# Altium footprint library TCU1.PcbLib: 22 footprints (part 1 of 2)
Each footprint in its own frame and in the unit in brackets; x right, y up, seen from the top. Pads: shape width x height; smd on the part's side, far side on the other; paste and mask are expansions set on the pad; w line width, h text height; cw(c..) or ccw(c..) is an arc to the next point about the centre after c.
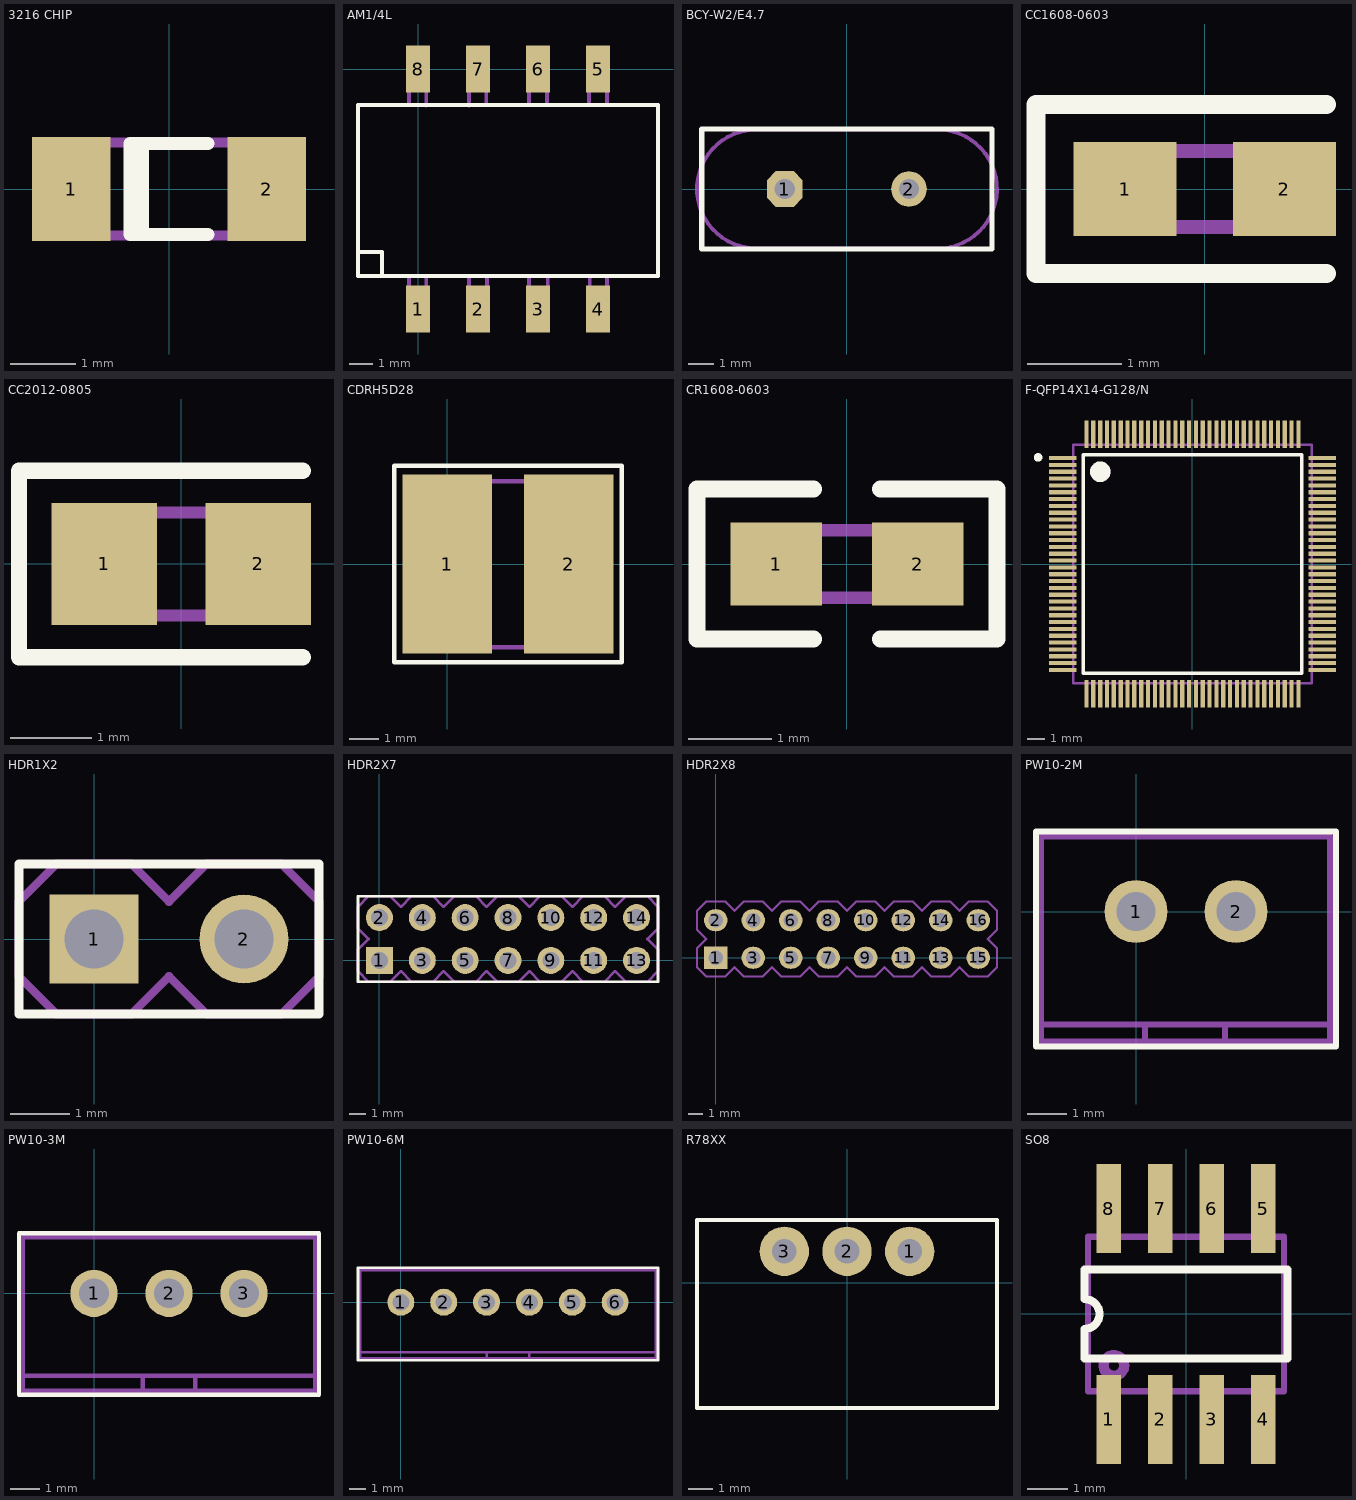
[diagram p0: the footprints below, top view; thin cyan lines are the x and y axes]

## 3216 CHIP [mm]
pads (2):
  rect 1.2x1.6 smd: 1(-1.5,0) 2(1.5,0)
Top Overlay:
  lines w0.2: -0.41,-0.7 -0.41,0.7 ; 0.6,-0.7 -0.6,-0.7 -0.6,0.7 0.6,0.7
Mechanical 3:
  lines w0.15: -1.27,0.686 -1.27,-0.686 -1.245,-0.711 ; 1.27,-0.711 1.27,0.711 ; -1.651,-0.711 -1.651,0.711 1.651,0.711 1.651,-0.711 -1.651,-0.711
3D body: height 0.78, standoff 0, extent -1,-0.635 1,0.615

## AM1/4L [mm]
pads (8):
  rect 1x2 smd: 1(0,-10.16) 2(2.54,-10.16) 3(5.08,-10.16) 4(7.62,-10.16) 5(7.62,0) 6(5.08,0) 7(2.54,0) 8(0,0)
Top Overlay:
  lines w0.15: -2.54,-7.747 -1.524,-7.747 -1.524,-8.738 ; -2.54,-8.763 10.16,-8.763 10.16,-1.524 -2.54,-1.524 -2.54,-8.763
Mechanical 3:
  lines w0.15: -0.381,-8.763 -0.381,-10.287 0.356,-10.287 0.356,-8.763 ; -0.381,-1.524 -0.381,0.152 0.356,0.152 0.356,-1.549 ; 2.159,-8.763 2.159,-10.287 2.921,-10.287 2.921,-8.814 2.896,-8.788 ; 2.159,-1.549 2.159,0.127 2.896,0.127 2.896,-1.524 ; 4.699,-8.763 4.699,-10.312 5.486,-10.312 5.486,-8.763 ; 4.699,-1.524 4.699,0.127 5.461,0.127 5.461,-1.499 ; 7.239,-1.499 7.239,0.127 8.001,0.127 8.001,-1.524 ; 7.264,-8.814 7.264,-10.312 8.001,-10.312 8.001,-8.788
3D body: height 1, standoff 0, extent -0.381,-10.439 0.356,-8.636
3D body: height 1, standoff 0, extent 2.184,-10.439 2.921,-8.636
3D body: height 1, standoff 0, extent 4.724,-10.439 5.461,-8.636
3D body: height 1, standoff 0, extent 7.264,-10.439 8.001,-8.636
3D body: height 1, standoff 0, extent 7.239,-1.651 7.976,0.152
3D body: height 1, standoff 0, extent 4.699,-1.651 5.436,0.152
3D body: height 1, standoff 0, extent 2.159,-1.651 2.896,0.152
3D body: height 1, standoff 0, extent -0.381,-1.651 0.356,0.152
3D body: height 6, standoff 0, extent -2.54,-8.763 10.16,-1.524

## BCY-W2/E4.7 [mm]
pads (2):
  oct 1.4x1.4 hole 0.8: 1(-2.44,0)
  round 1.4 hole 0.8: 2(2.44,0)
Top Overlay:
  lines w0.2: -5.7,-2.35 -5.7,2.35 5.7,2.35 5.7,-2.35 -5.7,-2.35
Mechanical 3:
  lines w0.15: -3.683,2.337 3.658,2.337
  lines w0.152: -3.708,-2.337 3.785,-2.337 ; -3.684,2.328 ccw(c-3.556,0) -3.683,-2.328 ; 3.659,2.34 cw(c3.556,0) 3.809,-2.328
3D body: height 1.27, standoff -4.33, extent -5.588,-2.336 5.584,2.336
3D body: height 0.3, standoff 0, extent -5.69,-2.337 5.715,2.337

## CC1608-0603 [mm]
pads (2):
  rect 1.1x1 smd: 1(-0.85,0) 2(0.85,0)
Top Overlay:
  lines w0.2: 1.3,-0.9 -1.8,-0.9 -1.8,0.9 1.3,0.9
Mechanical 3:
  lines w0.15: -0.686,-0.406 -0.686,0.406 ; 0.711,-0.381 0.711,0.406 ; -0.965,-0.406 1.016,-0.406 1.016,0.406 -0.965,0.406 -0.965,-0.406
3D body: height 0.86, standoff -0.04, extent -1.3,-0.5 1.3,0.5

## CC2012-0805 [mm]
pads (2):
  rect 1.3x1.5 smd: 1(-0.95,0) 2(0.95,0)
Top Overlay:
  lines w0.2: 1.5,-1.15 -2,-1.15 -2,1.15 1.5,1.15
Mechanical 3:
  lines w0.15: -1.143,0.635 -1.143,-0.635 1.143,-0.635 1.143,0.635 -1.118,0.635 ; -0.787,-0.635 -0.787,0.635 ; 0.813,-0.61 0.813,0.635
3D body: height 0.93, standoff -0.01, extent -1.5,-0.7 1.5,0.7

## CDRH5D28 [mm]
pads (2):
  rect 3x6 smd: 1(0,0) 2(4.064,0)
Top Overlay:
  lines w0.15: -1.778,-3.302 -1.778,3.302 5.842,3.302 5.842,-3.302 -1.778,-3.302
Mechanical 3:
  lines w0.15: -1.295,2.769 -1.295,-2.794 5.334,-2.794 5.334,2.769 -1.27,2.769 ; -1.27,1.905 -1.245,1.905 -0.381,2.769 ; 4.42,-2.769 5.283,-1.905 ; 5.309,-1.905 5.334,-1.905
3D body: height 4, standoff 0, extent -1.295,-2.794 5.334,2.743

## CR1608-0603 [mm]
pads (2):
  rect 1.1x1 smd: 1(-0.85,0) 2(0.85,0)
Top Overlay:
  lines w0.2: -0.4,-0.9 -1.8,-0.9 -1.8,0.9 -0.4,0.9 ; 0.4,-0.9 1.8,-0.9 1.8,0.9 0.4,0.9
Mechanical 3:
  lines w0.15: -0.686,-0.406 -0.686,0.406 ; 0.66,-0.406 0.66,0.406 ; -1.016,-0.406 1.016,-0.406 1.016,0.406 -1.016,0.406 -1.016,-0.406
3D body: height 0.37, standoff 0, extent -0.8,-0.401 0.8,0.401

## F-QFP14X14-G128/N [mm]
pads (128):
  rect 1.6x0.25 smd: 1(-7.6,6.2) 2(-7.6,5.8) 3(-7.6,5.4) 4(-7.6,5) 5(-7.6,4.6) 6(-7.6,4.2) 7(-7.6,3.8) 8(-7.6,3.4) 9(-7.6,3) 10(-7.6,2.6) 11(-7.6,2.2) 12(-7.6,1.8) 13(-7.6,1.4) 14(-7.6,1) 15(-7.6,0.6) 16(-7.6,0.2) 17(-7.6,-0.2) 18(-7.6,-0.6) 19(-7.6,-1) 20(-7.6,-1.4) 21(-7.6,-1.8) 22(-7.6,-2.2) 23(-7.6,-2.6) 24(-7.6,-3) 25(-7.6,-3.4) 26(-7.6,-3.8) 27(-7.6,-4.2) 28(-7.6,-4.6) 29(-7.6,-5) 30(-7.6,-5.4) 31(-7.6,-5.8) 32(-7.6,-6.2) 65(7.6,-6.2) 66(7.6,-5.8) 67(7.6,-5.4) 68(7.6,-5) 69(7.6,-4.6) 70(7.6,-4.2) 71(7.6,-3.8) 72(7.6,-3.4) 73(7.6,-3) 74(7.6,-2.6) 75(7.6,-2.2) 76(7.6,-1.8) 77(7.6,-1.4) 78(7.6,-1) 79(7.6,-0.6) 80(7.6,-0.2) 81(7.6,0.2) 82(7.6,0.6) 83(7.6,1) 84(7.6,1.4) 85(7.6,1.8) 86(7.6,2.2) 87(7.6,2.6) 88(7.6,3) 89(7.6,3.4) 90(7.6,3.8) 91(7.6,4.2) 92(7.6,4.6) 93(7.6,5) 94(7.6,5.4) 95(7.6,5.8) 96(7.6,6.2)
  rect 0.25x1.6 smd: 33(-6.2,-7.6) 34(-5.8,-7.6) 35(-5.4,-7.6) 36(-5,-7.6) 37(-4.6,-7.6) 38(-4.2,-7.6) 39(-3.8,-7.6) 40(-3.4,-7.6) 41(-3,-7.6) 42(-2.6,-7.6) 43(-2.2,-7.6) 44(-1.8,-7.6) 45(-1.4,-7.6) 46(-1,-7.6) 47(-0.6,-7.6) 48(-0.2,-7.6) 49(0.2,-7.6) 50(0.6,-7.6) 51(1,-7.6) 52(1.4,-7.6) 53(1.8,-7.6) 54(2.2,-7.6) 55(2.6,-7.6) 56(3,-7.6) 57(3.4,-7.6) 58(3.8,-7.6) 59(4.2,-7.6) 60(4.6,-7.6) 61(5,-7.6) 62(5.4,-7.6) 63(5.8,-7.6) 64(6.2,-7.6) 97(6.2,7.6) 98(5.8,7.6) 99(5.4,7.6) 100(5,7.6) 101(4.6,7.6) 102(4.2,7.6) 103(3.8,7.6) 104(3.4,7.6) 105(3,7.6) 106(2.6,7.6) 107(2.2,7.6) 108(1.8,7.6) 109(1.4,7.6) 110(1,7.6) 111(0.6,7.6) 112(0.2,7.6) 113(-0.2,7.6) 114(-0.6,7.6) 115(-1,7.6) 116(-1.4,7.6) 117(-1.8,7.6) 118(-2.2,7.6) 119(-2.6,7.6) 120(-3,7.6) 121(-3.4,7.6) 122(-3.8,7.6) 123(-4.2,7.6) 124(-4.6,7.6) 125(-5,7.6) 126(-5.4,7.6) 127(-5.8,7.6) 128(-6.2,7.6)
Top Overlay:
  circle w0.25: c-9.033,6.239 r0.125
  circle w0.6: c-5.4,5.4 r0.3
  lines w0.2: -6.4,-6.4 6.4,-6.4 6.4,6.4 -6.4,6.4 -6.4,-6.4
Mechanical 3:
  drawing of 155 lines, arcs and shapes, not listed
3D body: height 1.35, standoff 0, extent -8.001,-8.011 8.021,8.011

## HDR1X2 [mm]
pads (2):
  rect 1.5x1.5 hole 1: 1(0,0)
  round 1.5 hole 1: 2(2.54,0)
Top Overlay:
  lines w0.15: -1.27,-1.27 -1.27,1.27 3.81,1.27 3.81,-1.27 -1.27,-1.27
Mechanical 3:
  circle w0.254: c0,0 r0.381
  circle w0.254: c2.54,0 r0.381
  lines w0.15: -1.27,-0.635 -0.635,-1.27 0.635,-1.27 1.27,-0.635 1.905,-1.27 3.175,-1.27 3.81,-0.635 3.81,0.635 3.175,1.27 1.905,1.27 1.27,0.635 0.635,1.27 -0.635,1.27 -1.27,0.635 -1.27,-0.635
3D body: height 10, standoff -3, extent -0.254,-0.254 0.254,0.254
3D body: height 10, standoff -3, extent 2.286,-0.254 2.794,0.254
3D body: height 2.5, standoff 0.1, extent -1.27,-1.27 3.81,1.27

## HDR2X7 [mm]
pads (14):
  rect 1.6x1.6 hole 1: 1(0,0)
  round 1.6 hole 1: 2(0,2.54) 3(2.54,0) 4(2.54,2.54) 5(5.08,0) 6(5.08,2.54) 7(7.62,0) 8(7.62,2.54) 9(10.16,0) 10(10.16,2.54) 11(12.7,0) 12(12.7,2.54) 13(15.24,0) 14(15.24,2.54)
Top Overlay:
  lines w0.15: -1.27,-1.27 -1.27,3.81 16.51,3.81 16.51,-1.27 -1.27,-1.27
Mechanical 3:
  circle w0.254: c0,0 r0.381
  circle w0.254: c2.54,0 r0.381
  circle w0.254: c5.08,0 r0.381
  circle w0.254: c7.62,0 r0.381
  circle w0.254: c10.16,0 r0.381
  circle w0.254: c12.7,0 r0.381
  circle w0.254: c15.24,0 r0.381
  circle w0.254: c15.24,2.54 r0.381
  circle w0.254: c12.7,2.54 r0.381
  circle w0.254: c10.16,2.54 r0.381
  circle w0.254: c7.62,2.54 r0.381
  circle w0.254: c5.08,2.54 r0.381
  circle w0.254: c2.54,2.54 r0.381
  circle w0.254: c0,2.54 r0.381
  lines w0.15: -1.27,-0.635 -1.27,0.635 -0.635,1.27 -1.27,1.905 -1.27,3.175 -0.635,3.81 0.635,3.81 1.27,3.175 1.905,3.81 3.175,3.81 3.81,3.175 4.445,3.81 5.715,3.81 6.35,3.175 6.985,3.81 8.255,3.81 8.89,3.175 9.525,3.81 10.795,3.81 11.43,3.175 12.065,3.81 13.335,3.81 13.97,3.175 14.605,3.81 15.875,3.81 16.51,3.175 16.51,1.905 15.875,1.27 16.51,0.635 16.51,-0.635 15.875,-1.27 14.605,-1.27 13.97,-0.635 13.335,-1.27 12.065,-1.27 11.43,-0.635 10.795,-1.27 9.525,-1.27 8.89,-0.635 8.255,-1.27 6.985,-1.27 6.35,-0.635 5.715,-1.27 4.445,-1.27 3.81,-0.635 3.175,-1.27 1.905,-1.27 1.27,-0.635 0.635,-1.27 -0.635,-1.27 -1.27,-0.635
3D body: height 2.5, standoff 0.1, extent -1.27,-1.27 16.51,3.81
3D body: height 10, standoff -3, extent -0.254,-0.254 0.254,0.254
3D body: height 10, standoff -3, extent 2.286,2.286 2.794,2.794
3D body: height 10, standoff -3, extent 4.826,2.286 5.334,2.794
3D body: height 10, standoff -3, extent 2.286,-0.254 2.794,0.254
3D body: height 10, standoff -3, extent 4.826,-0.254 5.334,0.254
3D body: height 10, standoff -3, extent 7.366,2.286 7.874,2.794
3D body: height 10, standoff -3, extent 7.366,-0.254 7.874,0.254
3D body: height 10, standoff -3, extent 9.906,2.286 10.414,2.794
3D body: height 10, standoff -3, extent 9.906,-0.254 10.414,0.254
3D body: height 10, standoff -3, extent 12.446,2.286 12.954,2.794
3D body: height 10, standoff -3, extent 12.446,-0.254 12.954,0.254
3D body: height 10, standoff -3, extent 14.986,2.286 15.494,2.794
3D body: height 10, standoff -3, extent 14.986,-0.254 15.494,0.254
3D body: height 10, standoff -3, extent -0.254,2.286 0.254,2.794

## HDR2X8 [mm]
pads (16):
  rect 1.6x1.5 / inner rect 1.6x1.5 / far side rect 1.6x1.6 hole 1: 1(0,0)
  oval 1.6x1.5 / inner oval 1.6x1.5 / far side round 1.6 hole 1: 2(0,2.54) 3(2.54,0) 4(2.54,2.54) 5(5.08,0) 6(5.08,2.54) 7(7.62,0) 8(7.62,2.54) 9(10.16,0) 10(10.16,2.54) 11(12.7,0) 12(12.7,2.54) 13(15.24,0) 14(15.24,2.54) 15(17.78,0) 16(17.78,2.54)
Bottom Overlay:
  lines w0.15: -1.27,-1.27 -1.27,3.81 19.05,3.81 19.05,-1.27 -1.27,-1.27
Mechanical 3:
  circle w0.254: c17.78,0 r0.381
  circle w0.254: c17.78,2.54 r0.381
  circle w0.254: c2.54,0 r0.381
  circle w0.254: c0,0 r0.381
  circle w0.254: c2.54,0 r0.381
  circle w0.254: c5.08,0 r0.381
  circle w0.254: c7.62,0 r0.381
  circle w0.254: c10.16,0 r0.381
  circle w0.254: c12.7,0 r0.381
  circle w0.254: c15.24,0 r0.381
  circle w0.254: c15.24,2.54 r0.381
  circle w0.254: c12.7,2.54 r0.381
  circle w0.254: c10.16,2.54 r0.381
  circle w0.254: c7.62,2.54 r0.381
  circle w0.254: c5.08,2.54 r0.381
  circle w0.254: c2.54,2.54 r0.381
  circle w0.254: c0,2.54 r0.381
  lines w0.15: -1.27,-0.635 -1.27,0.635 -0.635,1.27 -1.27,1.905 -1.27,3.175 -0.635,3.81 0.635,3.81 1.27,3.175 1.905,3.81 3.175,3.81 3.81,3.175 4.445,3.81 5.715,3.81 6.35,3.175 6.985,3.81 8.255,3.81 8.89,3.175 9.525,3.81 10.795,3.81 11.43,3.175 12.065,3.81 13.335,3.81 13.97,3.175 14.605,3.81 15.875,3.81 16.51,3.175 17.145,3.81 18.415,3.81 19.05,3.175 19.05,1.905 18.415,1.27 19.05,0.635 19.05,-0.635 18.415,-1.27 17.145,-1.27 16.51,-0.635 15.875,-1.27 14.605,-1.27 13.97,-0.635 13.335,-1.27 12.065,-1.27 11.43,-0.635 10.795,-1.27 9.525,-1.27 8.89,-0.635 8.255,-1.27 6.985,-1.27 6.35,-0.635 5.715,-1.27 4.445,-1.27 3.81,-0.635 3.175,-1.27 1.905,-1.27 1.27,-0.635 0.635,-1.27 -0.635,-1.27 -1.27,-0.635
3D body: height 2, standoff -11, extent -0.254,2.286 0.254,2.794
3D body: height 2, standoff -11, extent 17.526,-0.254 18.034,0.254
3D body: height 2, standoff -11, extent 17.526,2.286 18.034,2.794
3D body: height 2, standoff -11, extent 14.986,-0.254 15.494,0.254
3D body: height 2, standoff -11, extent 14.986,2.286 15.494,2.794
3D body: height 2, standoff -11, extent 12.446,-0.254 12.954,0.254
3D body: height 2, standoff -11, extent 12.446,2.286 12.954,2.794
3D body: height 2, standoff -11, extent 9.906,-0.254 10.414,0.254
3D body: height 2, standoff -11, extent 9.906,2.286 10.414,2.794
3D body: height 2, standoff -11, extent 7.366,-0.254 7.874,0.254
3D body: height 2, standoff -11, extent 7.366,2.286 7.874,2.794
3D body: height 2, standoff -11, extent 4.826,-0.254 5.334,0.254
3D body: height 2, standoff -11, extent 2.286,-0.254 2.794,0.254
3D body: height 2, standoff -11, extent 4.826,2.286 5.334,2.794
3D body: height 2, standoff -11, extent 2.286,2.286 2.794,2.794
3D body: height 2, standoff -11, extent -0.254,-0.254 0.254,0.254
3D body: height -0.4, standoff -3.5, extent -1.219,-1.118 19.101,3.962

## PW10-2M [mm]
pads (2):
  round 1.6 hole 1: 1(0,0) 2(2.54,0)
Top Overlay:
  lines w0.15: -2.54,-3.429 5.08,-3.429 5.08,2.032 0,2.032 -2.54,2.032 -2.54,-3.429
Mechanical 3:
  circle w0.254: c2.54,0 r0.356
  circle w0.254: c0,0 r0.356
  lines w0.15: -2.413,1.905 4.928,1.905 4.928,-3.277 4.953,-3.302 -2.413,-3.302 -2.413,1.88 -2.388,1.905 ; -2.337,-2.87 4.902,-2.87 ; 0.229,-3.251 0.229,-2.921 ; 2.261,-3.277 2.261,-2.896
3D body: height 2, standoff 0.1, extent -2.54,-3.556 5.08,2.032
3D body: height 10.1, standoff -3, extent 2.286,-0.254 2.794,0.254
3D body: height 10.1, standoff -3, extent -0.254,-0.254 0.254,0.254
3D body: height 7, standoff 0.1, extent -2.54,-3.556 5.08,0.508
3D body: height 7, standoff 0.1, extent -2.54,1.524 -0.508,2.032
3D body: height 7, standoff 0.1, extent 3.048,1.524 5.08,2.032

## PW10-3M [mm]
pads (3):
  round 1.6 hole 1: 1(0,0) 2(2.54,0) 3(5.08,0)
Top Overlay:
  lines w0.15: -2.54,-3.429 7.366,-3.429 7.62,-3.429 7.62,2.032 -2.54,2.032 -2.54,-3.429
Mechanical 3:
  circle w0.254: c0,0 r0.356
  circle w0.254: c2.54,0 r0.356
  circle w0.254: c5.08,0 r0.356
  lines w0.15: -2.388,-2.794 7.493,-2.794 ; 1.651,-3.251 1.651,-2.819 ; 3.429,-3.277 3.429,-2.794 ; -2.413,-3.302 7.493,-3.302 7.493,1.88 7.518,1.905 -2.413,1.905 -2.413,-3.302
3D body: height 2, standoff 0.1, extent -2.54,-3.556 7.62,2.032
3D body: height 7, standoff 0.1, extent 1.016,1.524 4.064,2.032
3D body: height 7, standoff 0.1, extent 5.588,1.524 7.62,2.032
3D body: height 7, standoff 0.1, extent -2.54,1.524 -0.508,2.032
3D body: height 7, standoff 0.1, extent -2.54,-3.556 7.62,0.508
3D body: height 10.1, standoff -3, extent -0.254,-0.254 0.254,0.254
3D body: height 10.1, standoff -3, extent 2.286,-0.254 2.794,0.254
3D body: height 10.1, standoff -3, extent 4.826,-0.254 5.334,0.254

## PW10-6M [mm]
pads (6):
  round 1.6 hole 1: 1(0,0) 2(2.54,0) 3(5.08,0) 4(7.62,0) 5(10.16,0) 6(12.7,0)
Top Overlay:
  lines w0.15: -2.54,-3.429 -2.54,2.032 15.24,2.032 15.24,-3.429 -2.54,-3.429
Mechanical 3:
  circle w0.254: c12.7,0 r0.356
  circle w0.254: c10.16,0 r0.356
  circle w0.254: c7.62,0 r0.356
  circle w0.254: c5.08,0 r0.356
  circle w0.254: c2.54,0 r0.356
  circle w0.254: c0,0 r0.356
  lines w0.15: -2.413,1.905 -2.413,-3.302 -2.388,-3.327 15.113,-3.327 15.113,1.905 -2.362,1.905 -2.388,1.88 ; -2.388,-2.972 15.088,-2.972 15.113,-2.946 ; 5.08,-3.327 5.08,-2.972 ; 7.62,-2.997 7.62,-3.277 7.645,-3.302
3D body: height 10.1, standoff -3, extent 12.446,-0.254 12.954,0.254
3D body: height 10.1, standoff -3, extent 9.906,-0.254 10.414,0.254
3D body: height 10.1, standoff -3, extent 7.366,-0.254 7.874,0.254
3D body: height 10.1, standoff -3, extent 4.826,-0.254 5.334,0.254
3D body: height 10.1, standoff -3, extent 2.286,-0.254 2.794,0.254
3D body: height 10.1, standoff -3, extent -0.254,-0.254 0.254,0.254
3D body: height 7, standoff 0.1, extent 1.016,1.524 11.684,2.032
3D body: height 7, standoff 0.1, extent 13.208,1.524 15.24,2.032
3D body: height 7, standoff 0.1, extent -2.54,1.524 -0.508,2.032
3D body: height 7, standoff 0.1, extent -2.54,-3.556 15.24,0.508
3D body: height 2, standoff 0.1, extent -2.54,-3.556 15.24,2.032

## R78XX [mm]
pads (3):
  round 2 hole 1: 1(2.54,1.27) 2(0,1.27) 3(-2.54,1.27)
Top Overlay:
  lines w0.15: -6.08,-5.08 -6.08,2.54 6.08,2.54 6.08,-5.08 -6.08,-5.08
3D body: height 10, standoff 1, extent -5.588,-4.318 5.588,2.794
3D body: height 3, standoff -2, extent -2.921,1.143 -2.159,1.397
3D body: height 3, standoff -2, extent -0.381,1.143 0.381,1.397
3D body: height 3, standoff -2, extent 2.159,1.143 2.921,1.397

## SO8 [mm]
pads (8):
  rect 0.6x2.2 smd: 1(-1.905,-2.6) 2(-0.635,-2.6) 3(0.635,-2.6) 4(1.905,-2.6) 5(1.905,2.6) 6(0.635,2.6) 7(-0.635,2.6) 8(-1.905,2.6)
Top Overlay:
  lines w0.2: -2.5,-1.1 2.5,-1.1 2.5,1.1 -2.5,1.1 -2.5,0.367 cw(c-2.5,0) -2.5,-0.367 -2.5,-1.1
Mechanical 3:
  circle w0.254: c-1.778,-1.27 r0.254
  lines w0.15: -2.032,-1.905 -2.032,-2.794 -1.778,-2.794 -1.778,-1.905 ; -2.032,1.905 -2.032,2.794 -1.778,2.794 -1.778,2.032 -1.778,1.905 ; -0.762,-1.905 -0.762,-2.794 -0.508,-2.794 -0.508,-1.905 ; -0.762,1.905 -0.762,2.794 -0.508,2.794 -0.508,1.905 ; 0.508,-1.905 0.508,-2.794 0.762,-2.794 0.762,-1.905 ; 0.508,1.905 0.508,2.794 0.762,2.794 0.762,1.905 ; 1.778,-1.905 1.778,-2.794 2.032,-2.794 2.032,-1.905 ; 1.778,1.905 1.778,2.794 2.032,2.794 2.032,1.905 ; -2.413,-1.905 -2.413,1.905 2.413,1.905 2.413,-1.905 -2.413,-1.905
3D body: height 1.89, standoff -0.01, extent -2.486,-3.04 2.518,3.298